# EAGLE library part TS3A24159 (library texas-instruments)
0.3-Ω 2-Channel SPDT Bidirectional Analog Switch Dual-Channel 2:1 Multiplexer and Demultiplexer
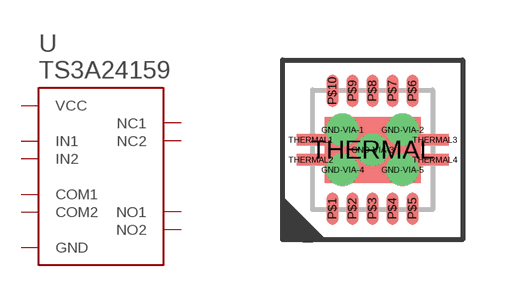
[diagram p20: symbol with the pads of S-PVSON-N10-DRC; footprint S-PVSON-N10-DRC]

Designator prefix U

## TS3A24159DRC  [S-PVSON-N10-DRC]
GND-VIA-1  GND  sup
GND-VIA-2  GND  sup
GND-VIA-3  GND  sup
GND-VIA-4  GND  sup
GND-VIA-5  GND  sup
P$1  VCC  pwr
P$2  NO1
P$3  COM1
P$4  IN1  in
P$5  NC1
P$6  GND  sup
P$7  NC2
P$8  IN2  in
P$9  COM2
P$10  NO2
THERMAL  GND  sup
THERMAL1  GND  sup
THERMAL2  GND  sup
THERMAL3  GND  sup
THERMAL4  GND  sup

## Footprint S-PVSON-N10-DRC (pad centres in mm)
drill 0.3 pad 0.4: GND-VIA-1 -0.75,0.5; GND-VIA-2 0.75,0.5; GND-VIA-3 0,0; GND-VIA-4 -0.75,-0.5; GND-VIA-5 0.75,-0.5
smd 0.3 x 0.8: P$1 -1,-1.475; P$2 -0.5,-1.475; P$3 0,-1.475; P$4 0.5,-1.475; P$5 1,-1.475; P$6 1,1.475; P$7 0.5,1.475; P$8 0,1.475; P$9 -0.5,1.475; P$10 -1,1.475
smd 2.4 x 1.65: THERMAL 0,0
smd 0.7 x 0.28: THERMAL1 -1.55,0.25; THERMAL2 -1.55,-0.25; THERMAL3 1.55,0.25; THERMAL4 1.55,-0.25